# Altium integrated library ST Logic Arithmetic.IntLib: 21 symbols
Pins are listed as number, name and electrical type; pins without a type are passive.

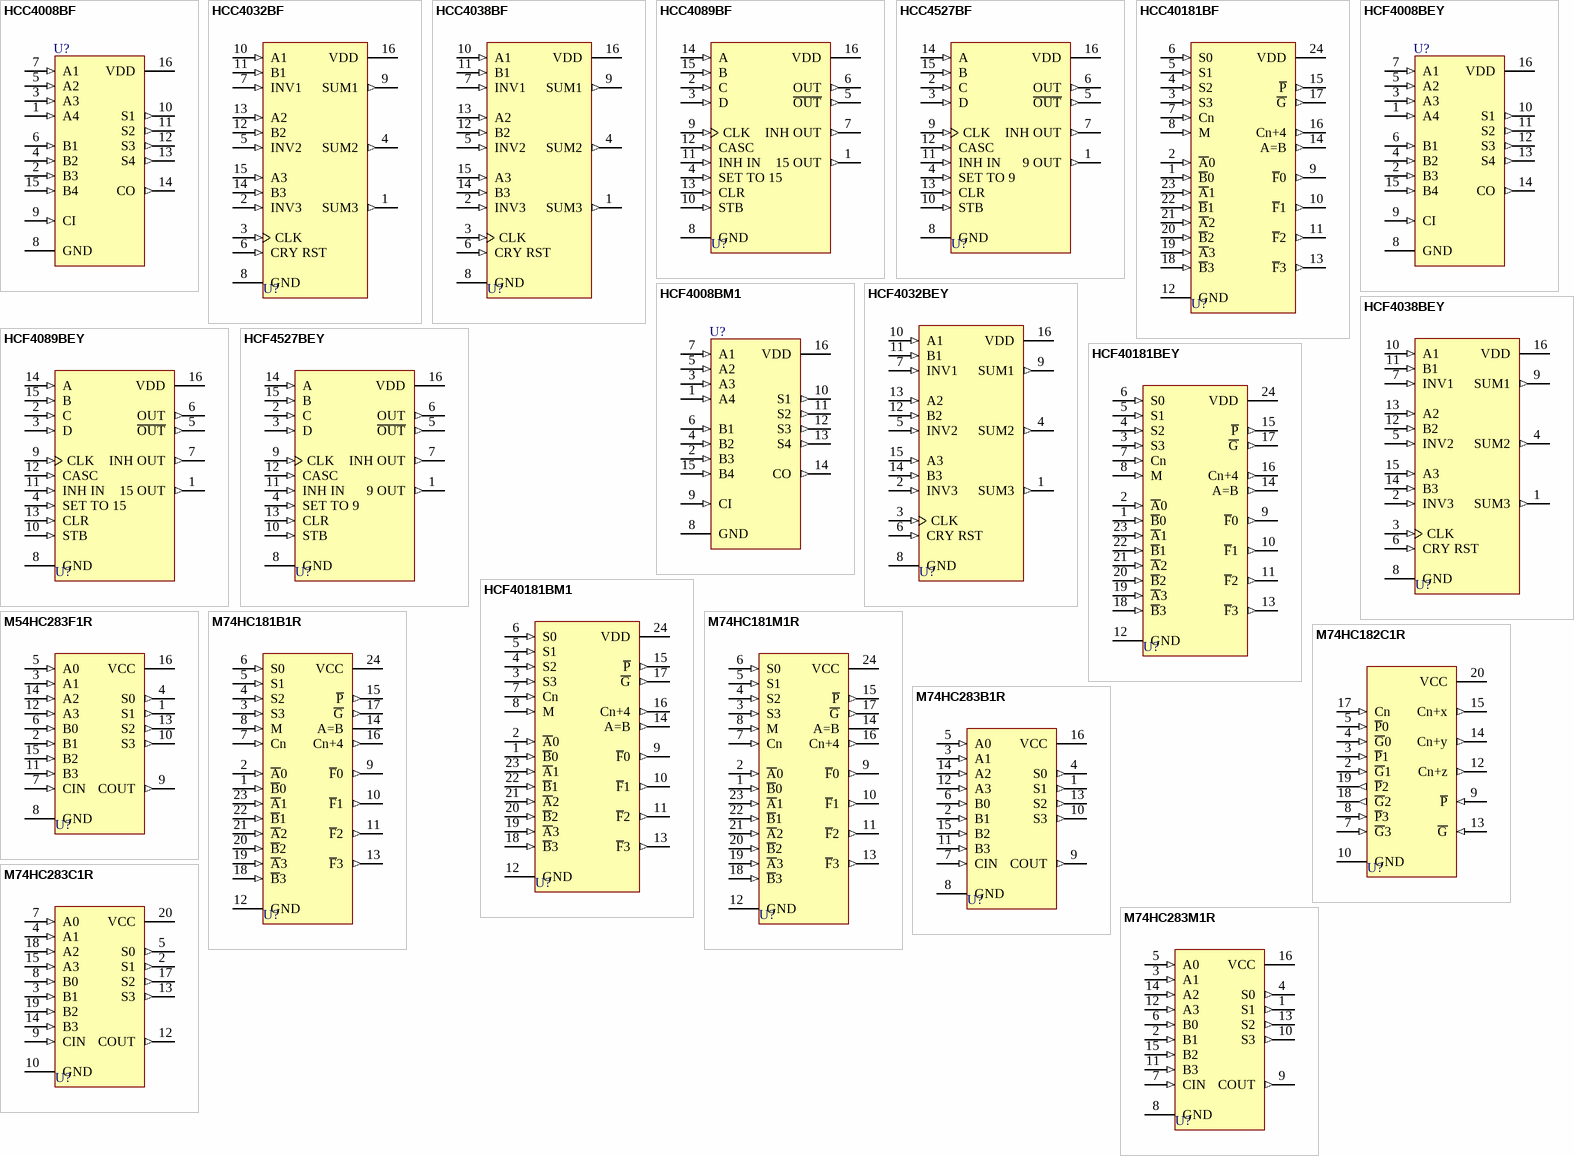
[diagram p0: symbols HCC4008BF to M74HC283M1R]

## HCC4008BF
designator U?
4-Bit Full Adder with Parallel Carry Output; Published: 8-Jun-2000; LatestRevisionDate: 06-Jun-2005; LatestRevisionNote: Stylized 3D Model Added.; DatasheetVersion: Jun-1989; PackageVersion: Apr-1996; PackageReference: DIP16; Publisher: Altium Limited; PackageDescription: DIP; 16 Leads; Row Spacing 7.62 mm; Pitch 2.54 mm; ComponentLink1Description: Manufacturer Link; ComponentLink1URL: http://www.st.com/
footprint DIP16 (DIP; 16 Leads; Row Spacing 7.62 mm; Pitch 2.54 mm)
3D model DIP16 (DIP; 16 Leads; Row Spacing 7.62 mm; Pitch 2.54 mm)
simulation model HCC4008 (SIMCODE)
pins: 1 A4 (in), 2 B3 (in), 3 A3 (in), 4 B2 (in), 5 A2 (in), 6 B1 (in), 7 A1 (in), 8 GND (power), 9 CI (in), 10 S1 (out), 11 S2 (out), 12 S3 (out), 13 S4 (out), 14 CO (out), 15 B4 (in), 16 VDD (power)

## HCC4032BF
designator U?
Triple Serial Adders; Published: 8-Jun-2000; LatestRevisionDate: 06-Jun-2005; LatestRevisionNote: Stylized 3D Model Added.; DatasheetVersion: Jun-1989; PackageVersion: Apr-1996; PackageReference: DIP16; Publisher: Altium Limited; PackageDescription: DIP; 16 Leads; Row Spacing 7.62 mm; Pitch 2.54 mm; ComponentLink1Description: Manufacturer Link; ComponentLink1URL: http://www.st.com/
footprint DIP16 (DIP; 16 Leads; Row Spacing 7.62 mm; Pitch 2.54 mm)
3D model DIP16 (DIP; 16 Leads; Row Spacing 7.62 mm; Pitch 2.54 mm)
pins: 1 SUM3 (out), 2 INV3 (in), 3 CLK (in), 4 SUM2 (out), 5 INV2 (in), 6 CRY RST (in), 7 INV1 (in), 8 GND (power), 9 SUM1 (out), 10 A1 (in), 11 B1 (in), 12 B2 (in), 13 A2 (in), 14 B3 (in), 15 A3 (in), 16 VDD (power)

## HCC4038BF
designator U?
Triple Serial Adders; Published: 8-Jun-2000; LatestRevisionDate: 06-Jun-2005; LatestRevisionNote: Stylized 3D Model Added.; DatasheetVersion: Jun-1989; PackageVersion: Apr-1996; PackageReference: DIP16; Publisher: Altium Limited; PackageDescription: DIP; 16 Leads; Row Spacing 7.62 mm; Pitch 2.54 mm; ComponentLink1Description: Manufacturer Link; ComponentLink1URL: http://www.st.com/
footprint DIP16 (DIP; 16 Leads; Row Spacing 7.62 mm; Pitch 2.54 mm)
3D model DIP16 (DIP; 16 Leads; Row Spacing 7.62 mm; Pitch 2.54 mm)
pins: 1 SUM3 (out), 2 INV3 (in), 3 CLK (in), 4 SUM2 (out), 5 INV2 (in), 6 CRY RST (in), 7 INV1 (in), 8 GND (power), 9 SUM1 (out), 10 A1 (in), 11 B1 (in), 12 B2 (in), 13 A2 (in), 14 B3 (in), 15 A3 (in), 16 VDD (power)

## HCC4089BF
designator U?
Binary Rate Multiplier; Published: 8-Jun-2000; LatestRevisionDate: 06-Jun-2005; LatestRevisionNote: Stylized 3D Model Added.; DatasheetVersion: Jun-1989; PackageVersion: Apr-1996; PackageReference: DIP16; Publisher: Altium Limited; PackageDescription: DIP; 16 Leads; Row Spacing 7.62 mm; Pitch 2.54 mm; ComponentLink1Description: Manufacturer Link; ComponentLink1URL: http://www.st.com/
footprint DIP16 (DIP; 16 Leads; Row Spacing 7.62 mm; Pitch 2.54 mm)
3D model DIP16 (DIP; 16 Leads; Row Spacing 7.62 mm; Pitch 2.54 mm)
pins: 1 15 OUT (out), 2 C (in), 3 D (in), 4 SET TO 15 (in), 5 ~{OUT} (out), 6 OUT (out), 7 INH OUT (out), 8 GND (power), 9 CLK (in), 10 STB (in), 11 INH IN (in), 12 CASC (in), 13 CLR (in), 14 A (in), 15 B (in), 16 VDD (power)

## HCC4527BF
designator U?
BCD Rate Multiplexer; Published: 8-Jun-2000; LatestRevisionDate: 06-Jun-2005; LatestRevisionNote: Stylized 3D Model Added.; DatasheetVersion: Sep-1990; PackageVersion: Apr-1996; PackageReference: DIP16; Publisher: Altium Limited; PackageDescription: DIP; 16 Leads; Row Spacing 7.62 mm; Pitch 2.54 mm; ComponentLink1Description: Manufacturer Link; ComponentLink1URL: http://www.st.com/
footprint DIP16 (DIP; 16 Leads; Row Spacing 7.62 mm; Pitch 2.54 mm)
3D model DIP16 (DIP; 16 Leads; Row Spacing 7.62 mm; Pitch 2.54 mm)
pins: 1 9 OUT (out), 2 C (in), 3 D (in), 4 SET TO 9 (in), 5 ~{OUT} (out), 6 OUT (out), 7 INH OUT (out), 8 GND (power), 9 CLK (in), 10 STB (in), 11 INH IN (in), 12 CASC (in), 13 CLR (in), 14 A (in), 15 B (in), 16 VDD (power)

## HCC40181BF
designator U?
4-Bit Arithmetic Logic Unit; Published: 8-Jun-2000; LatestRevisionDate: 06-Jun-2005; LatestRevisionNote: Stylized 3D Model Added.; DatasheetVersion: Jun-1989; PackageVersion: Sep-1988; PackageReference: CDIP24; Publisher: Altium Limited; PackageDescription: DIP; 24 Leads; Row Spacing 15.24 mm; Pitch 2.54 mm; ComponentLink1Description: Manufacturer Link; ComponentLink1URL: http://www.st.com/; ComponentLink2Description: Datasheet; ComponentLink2URL: http://www.st.com/stonline/products/literature/ds/2032/hcf4018.pdf
footprint CDIP24 (DIP; 24 Leads; Row Spacing 15.24 mm; Pitch 2.54 mm)
3D model PDIP24 (DIP; 24 Leads; Row Spacing 15.24 mm; Pitch 2.54 mm)
pins: 1 ~{B}0 (in), 2 ~{A}0 (in), 3 S3 (in), 4 S2 (in), 5 S1 (in), 6 S0 (in), 7 Cn (in), 8 M (in), 9 ~{F}0 (out), 10 ~{F}1 (out), 11 ~{F}2 (out), 12 GND (power), 13 ~{F}3 (out), 14 A=B (out), 15 ~{P} (out), 16 Cn+4 (out), 17 ~{G} (out), 18 ~{B}3 (in), 19 ~{A}3 (in), 20 ~{B}2 (in), 21 ~{A}2 (in), 22 ~{B}1 (in), 23 ~{A}1 (in), 24 VDD (power)

## HCF4008BEY
designator U?
4-Bit Full Adder with Parallel Carry Output; Published: 8-Jun-2000; LatestRevisionDate: 06-Jun-2005; LatestRevisionNote: Stylized 3D Model Added.; DatasheetVersion: Jun-1989; PackageVersion: Apr-1996; PackageReference: DIP16; Publisher: Altium Limited; PackageDescription: DIP; 16 Leads; Row Spacing 7.62 mm; Pitch 2.54 mm; ComponentLink1Description: Manufacturer Link; ComponentLink1URL: http://www.st.com/
footprint DIP16 (DIP; 16 Leads; Row Spacing 7.62 mm; Pitch 2.54 mm)
3D model DIP16 (DIP; 16 Leads; Row Spacing 7.62 mm; Pitch 2.54 mm)
simulation model HCF4008 (SIMCODE)
pins: 1 A4 (in), 2 B3 (in), 3 A3 (in), 4 B2 (in), 5 A2 (in), 6 B1 (in), 7 A1 (in), 8 GND (power), 9 CI (in), 10 S1 (out), 11 S2 (out), 12 S3 (out), 13 S4 (out), 14 CO (out), 15 B4 (in), 16 VDD (power)

## HCF4008BM1
designator U?
4-Bit Full Adder with Parallel Carry Output; Published: 8-Jun-2000; LatestRevisionDate: 13-Apr-2006; LatestRevisionNote: IPC-7351 Footprint Added.; DatasheetVersion: Jun-1989; PackageVersion: May-1998; PackageReference: SO16; Publisher: Altium Limited; PackageDescription: 16-Pin Small Outline Integrated Circuit 1.27 mm Pitch; Code_IPC: SOIC127P600-16; ComponentLink1Description: Manufacturer Link; ComponentLink1URL: http://www.st.com/
footprint SO16_N (SOIC, 16-Leads, Body 9.9x3.9mm, Pitch 1.27mm, IPC Medium Density)
footprint SO16_L (SOIC, 16-Leads, Body 9.9x3.9mm, Pitch 1.27mm, IPC High Density)
footprint SO16_M (SOIC, 16-Leads, Body 9.9x3.9mm, Pitch 1.27mm, IPC Low Density)
3D model SO16 (16-Pin Small Outline Integrated Circuit 1.27 mm Pitch)
simulation model HCF4008 (SIMCODE)
pins: 1 A4 (in), 2 B3 (in), 3 A3 (in), 4 B2 (in), 5 A2 (in), 6 B1 (in), 7 A1 (in), 8 GND (power), 9 CI (in), 10 S1 (out), 11 S2 (out), 12 S3 (out), 13 S4 (out), 14 CO (out), 15 B4 (in), 16 VDD (power)

## HCF4032BEY
designator U?
Triple Serial Adders; Published: 8-Jun-2000; LatestRevisionDate: 06-Jun-2005; LatestRevisionNote: Stylized 3D Model Added.; DatasheetVersion: Jun-1989; PackageVersion: Apr-1996; PackageReference: DIP16; Publisher: Altium Limited; PackageDescription: DIP; 16 Leads; Row Spacing 7.62 mm; Pitch 2.54 mm; ComponentLink1Description: Manufacturer Link; ComponentLink1URL: http://www.st.com/
footprint DIP16 (DIP; 16 Leads; Row Spacing 7.62 mm; Pitch 2.54 mm)
3D model DIP16 (DIP; 16 Leads; Row Spacing 7.62 mm; Pitch 2.54 mm)
pins: 1 SUM3 (out), 2 INV3 (in), 3 CLK (in), 4 SUM2 (out), 5 INV2 (in), 6 CRY RST (in), 7 INV1 (in), 8 GND (power), 9 SUM1 (out), 10 A1 (in), 11 B1 (in), 12 B2 (in), 13 A2 (in), 14 B3 (in), 15 A3 (in), 16 VDD (power)

## HCF4038BEY
designator U?
Triple Serial Adders; Published: 8-Jun-2000; LatestRevisionDate: 06-Jun-2005; LatestRevisionNote: Stylized 3D Model Added.; DatasheetVersion: Jun-1989; PackageVersion: Apr-1996; PackageReference: DIP16; Publisher: Altium Limited; PackageDescription: DIP; 16 Leads; Row Spacing 7.62 mm; Pitch 2.54 mm; ComponentLink1Description: Manufacturer Link; ComponentLink1URL: http://www.st.com/
footprint DIP16 (DIP; 16 Leads; Row Spacing 7.62 mm; Pitch 2.54 mm)
3D model DIP16 (DIP; 16 Leads; Row Spacing 7.62 mm; Pitch 2.54 mm)
pins: 1 SUM3 (out), 2 INV3 (in), 3 CLK (in), 4 SUM2 (out), 5 INV2 (in), 6 CRY RST (in), 7 INV1 (in), 8 GND (power), 9 SUM1 (out), 10 A1 (in), 11 B1 (in), 12 B2 (in), 13 A2 (in), 14 B3 (in), 15 A3 (in), 16 VDD (power)

## HCF4089BEY
designator U?
Binary Rate Multiplier; Published: 8-Jun-2000; LatestRevisionDate: 06-Jun-2005; LatestRevisionNote: Stylized 3D Model Added.; DatasheetVersion: Jun-1989; PackageVersion: Apr-1996; PackageReference: DIP16; Publisher: Altium Limited; PackageDescription: DIP; 16 Leads; Row Spacing 7.62 mm; Pitch 2.54 mm; ComponentLink1Description: Manufacturer Link; ComponentLink1URL: http://www.st.com/
footprint DIP16 (DIP; 16 Leads; Row Spacing 7.62 mm; Pitch 2.54 mm)
3D model DIP16 (DIP; 16 Leads; Row Spacing 7.62 mm; Pitch 2.54 mm)
pins: 1 15 OUT (out), 2 C (in), 3 D (in), 4 SET TO 15 (in), 5 ~{OUT} (out), 6 OUT (out), 7 INH OUT (out), 8 GND (power), 9 CLK (in), 10 STB (in), 11 INH IN (in), 12 CASC (in), 13 CLR (in), 14 A (in), 15 B (in), 16 VDD (power)

## HCF4527BEY
designator U?
BCD Rate Multiplexer; Published: 8-Jun-2000; LatestRevisionDate: 06-Jun-2005; LatestRevisionNote: Stylized 3D Model Added.; DatasheetVersion: Sep-1990; PackageVersion: Apr-1996; PackageReference: DIP16; Publisher: Altium Limited; PackageDescription: DIP; 16 Leads; Row Spacing 7.62 mm; Pitch 2.54 mm; ComponentLink1Description: Manufacturer Link; ComponentLink1URL: http://www.st.com/
footprint DIP16 (DIP; 16 Leads; Row Spacing 7.62 mm; Pitch 2.54 mm)
3D model DIP16 (DIP; 16 Leads; Row Spacing 7.62 mm; Pitch 2.54 mm)
pins: 1 9 OUT (out), 2 C (in), 3 D (in), 4 SET TO 9 (in), 5 ~{OUT} (out), 6 OUT (out), 7 INH OUT (out), 8 GND (power), 9 CLK (in), 10 STB (in), 11 INH IN (in), 12 CASC (in), 13 CLR (in), 14 A (in), 15 B (in), 16 VDD (power)

## HCF40181BEY
designator U?
4-Bit Arithmetic Logic Unit; Published: 8-Jun-2000; LatestRevisionDate: 06-Jun-2005; LatestRevisionNote: Stylized 3D Model Added.; DatasheetVersion: Jun-1989; PackageVersion: Jan-1995; PackageReference: PDIP24; Publisher: Altium Limited; PackageDescription: DIP; 24 Leads; Row Spacing 15.24 mm; Pitch 2.54 mm; ComponentLink1Description: Manufacturer Link; ComponentLink1URL: http://www.st.com/; ComponentLink2Description: Datasheet; ComponentLink2URL: http://www.st.com/stonline/products/literature/ds/2032/hcf4018.pdf
footprint PDIP24 (DIP; 24 Leads; Row Spacing 15.24 mm; Pitch 2.54 mm)
3D model PDIP24 (DIP; 24 Leads; Row Spacing 15.24 mm; Pitch 2.54 mm)
pins: 1 ~{B}0 (in), 2 ~{A}0 (in), 3 S3 (in), 4 S2 (in), 5 S1 (in), 6 S0 (in), 7 Cn (in), 8 M (in), 9 ~{F}0 (out), 10 ~{F}1 (out), 11 ~{F}2 (out), 12 GND (power), 13 ~{F}3 (out), 14 A=B (out), 15 ~{P} (out), 16 Cn+4 (out), 17 ~{G} (out), 18 ~{B}3 (in), 19 ~{A}3 (in), 20 ~{B}2 (in), 21 ~{A}2 (in), 22 ~{B}1 (in), 23 ~{A}1 (in), 24 VDD (power)

## HCF40181BM1
designator U?
4-Bit Arithmetic Logic Unit; Published: 8-Jun-2000; LatestRevisionDate: 13-Apr-2006; LatestRevisionNote: IPC-7351 Footprint Added.; DatasheetVersion: Jun-1989; PackageVersion: Oct-2001; PackageReference: SO24; Publisher: Altium Limited; PackageDescription: 24-Pin Plastic Small Outline Integrated Circuit 1.27 mm Pitch; ComponentLink1Description: Manufacturer Link; ComponentLink1URL: http://www.st.com/; ComponentLink2Description: Datasheet; ComponentLink2URL: http://www.st.com/stonline/products/literature/ds/2032/hcf4018.pdf
footprint SO24_N (SOIC, 24-Leads, Body 15.4x7.5mm, Pitch 1.27mm, IPC Medium Density)
footprint SO24_L (SOIC, 24-Leads, Body 15.4x7.5mm, Pitch 1.27mm, IPC High Density)
footprint SO24_M (SOIC, 24-Leads, Body 15.4x7.5mm, Pitch 1.27mm, IPC Low Density)
3D model SO24 (24-Pin Plastic Small Outline Integrated Circuit 1.27 mm Pitch)
pins: 1 ~{B}0 (in), 2 ~{A}0 (in), 3 S3 (in), 4 S2 (in), 5 S1 (in), 6 S0 (in), 7 Cn (in), 8 M (in), 9 ~{F}0 (out), 10 ~{F}1 (out), 11 ~{F}2 (out), 12 GND (power), 13 ~{F}3 (out), 14 A=B (out), 15 ~{P} (out), 16 Cn+4 (out), 17 ~{G} (out), 18 ~{B}3 (in), 19 ~{A}3 (in), 20 ~{B}2 (in), 21 ~{A}2 (in), 22 ~{B}1 (in), 23 ~{A}1 (in), 24 VDD (power)

## M54HC283F1R
designator U?
4-Bit Binary Full Adder; Published: 8-Jun-2000; LatestRevisionDate: 06-Jun-2005; LatestRevisionNote: Stylized 3D Model Added.; DatasheetVersion: Oct-1992; PackageVersion: Apr-1996; PackageReference: DIP16; Publisher: Altium Limited; PackageDescription: DIP; 16 Leads; Row Spacing 7.62 mm; Pitch 2.54 mm; ComponentLink1Description: Manufacturer Link; ComponentLink1URL: http://www.st.com/
footprint DIP16 (DIP; 16 Leads; Row Spacing 7.62 mm; Pitch 2.54 mm)
3D model DIP16 (DIP; 16 Leads; Row Spacing 7.62 mm; Pitch 2.54 mm)
signal-integrity model M54HC283F1R
pins: 1 S1 (out), 2 B1 (in), 3 A1 (in), 4 S0 (out), 5 A0 (in), 6 B0 (in), 7 CIN (in), 8 GND (power), 9 COUT (out), 10 S3 (out), 11 B3 (in), 12 A3 (in), 13 S2 (out), 14 A2 (in), 15 B2 (in), 16 VCC (power)

## M74HC181B1R
designator U?
Arithmetic Logic Unit/Fuction Generator; Published: 8-Jun-2000; LatestRevisionDate: 06-Jun-2005; LatestRevisionNote: Stylized 3D Model Added.; DatasheetVersion: Oct-1993; PackageVersion: Jan-1995; PackageReference: PDIP24; Publisher: Altium Limited; PackageDescription: DIP; 24 Leads; Row Spacing 15.24 mm; Pitch 2.54 mm; ComponentLink1Description: Manufacturer Link; ComponentLink1URL: http://www.st.com/
footprint PDIP24 (DIP; 24 Leads; Row Spacing 15.24 mm; Pitch 2.54 mm)
3D model PDIP24 (DIP; 24 Leads; Row Spacing 15.24 mm; Pitch 2.54 mm)
signal-integrity model M74HC181B1R
pins: 1 ~{B}0 (in), 2 ~{A}0 (in), 3 S3 (in), 4 S2 (in), 5 S1 (in), 6 S0 (in), 7 Cn (in), 8 M (in), 9 ~{F}0 (out), 10 ~{F}1 (out), 11 ~{F}2 (out), 12 GND (power), 13 ~{F}3 (out), 14 A=B (oc), 15 ~{P} (out), 16 Cn+4 (out), 17 ~{G} (out), 18 ~{B}3 (in), 19 ~{A}3 (in), 20 ~{B}2 (in), 21 ~{A}2 (in), 22 ~{B}1 (in), 23 ~{A}1 (in), 24 VCC (power)

## M74HC181M1R
designator U?
Arithmetic Logic Unit/Fuction Generator; Published: 8-Jun-2000; LatestRevisionDate: 13-Apr-2006; LatestRevisionNote: IPC-7351 Footprint Added.; DatasheetVersion: Oct-1993; PackageVersion: Oct-2001; PackageReference: SO24; Publisher: Altium Limited; PackageDescription: 24-Pin Plastic Small Outline Integrated Circuit 1.27 mm Pitch; ComponentLink1Description: Manufacturer Link; ComponentLink1URL: http://www.st.com/
footprint SO24_N (SOIC, 24-Leads, Body 15.4x7.5mm, Pitch 1.27mm, IPC Medium Density)
footprint SO24_L (SOIC, 24-Leads, Body 15.4x7.5mm, Pitch 1.27mm, IPC High Density)
footprint SO24_M (SOIC, 24-Leads, Body 15.4x7.5mm, Pitch 1.27mm, IPC Low Density)
3D model SO24 (24-Pin Plastic Small Outline Integrated Circuit 1.27 mm Pitch)
signal-integrity model M74HC181M1R
pins: 1 ~{B}0 (in), 2 ~{A}0 (in), 3 S3 (in), 4 S2 (in), 5 S1 (in), 6 S0 (in), 7 Cn (in), 8 M (in), 9 ~{F}0 (out), 10 ~{F}1 (out), 11 ~{F}2 (out), 12 GND (power), 13 ~{F}3 (out), 14 A=B (oc), 15 ~{P} (out), 16 Cn+4 (out), 17 ~{G} (out), 18 ~{B}3 (in), 19 ~{A}3 (in), 20 ~{B}2 (in), 21 ~{A}2 (in), 22 ~{B}1 (in), 23 ~{A}1 (in), 24 VCC (power)

## M74HC182C1R
designator U?
Function Look Ahead Carry Generator; Note: Pins 1, 6, 11 and 16 are not connected and not drawn.; Published: 8-Jun-2000; LatestRevisionDate: 13-Apr-2006; LatestRevisionNote: IPC-7351 Footprint Added.; DatasheetVersion: Mar-1993; PackageVersion: Mar-1992; PackageReference: PLCC20; Publisher: Altium Limited; PackageDescription: 20-Pin Leaded Chip Carrier 1.27 mm Pitch; ComponentLink1Description: Manufacturer Link; ComponentLink1URL: http://www.st.com/
footprint PLCC20_N (Leaded Chip Carrier, 20-Leads, Body 9x9mm, Pitch 1.27mm, IPC Medium Density)
footprint PLCC20_L (Leaded Chip Carrier, 20-Leads, Body 9x9mm, Pitch 1.27mm, IPC High Density)
footprint PLCC20_M (Leaded Chip Carrier, 20-Leads, Body 9x9mm, Pitch 1.27mm, IPC Low Density)
3D model M74HC182-PLCC20 (20-Pin Leaded Chip Carrier 1.27 mm Pitch)
signal-integrity model M74HC182C1R
pins: 2 ~{G}1 (in), 3 ~{P}1 (in), 4 ~{G}0 (in), 5 ~{P}0 (in), 7 ~{G}3 (in), 8 ~{P}3 (in), 9 ~{P} (in), 10 GND (power), 12 Cn+z (out), 13 ~{G} (in), 14 Cn+y (out), 15 Cn+x (out), 17 Cn (in), 18 ~{G}2 (out), 19 ~{P}2 (out), 20 VCC (power)

## M74HC283B1R
designator U?
4-Bit Binary Full Adder; Published: 8-Jun-2000; LatestRevisionDate: 06-Jun-2005; LatestRevisionNote: Stylized 3D Model Added.; DatasheetVersion: Oct-1992; PackageVersion: Apr-1996; PackageReference: DIP16; Publisher: Altium Limited; PackageDescription: DIP; 16 Leads; Row Spacing 7.62 mm; Pitch 2.54 mm; ComponentLink1Description: Manufacturer Link; ComponentLink1URL: http://www.st.com/
footprint DIP16 (DIP; 16 Leads; Row Spacing 7.62 mm; Pitch 2.54 mm)
3D model DIP16 (DIP; 16 Leads; Row Spacing 7.62 mm; Pitch 2.54 mm)
signal-integrity model M74HC283B1R
pins: 1 S1 (out), 2 B1 (in), 3 A1 (in), 4 S0 (out), 5 A0 (in), 6 B0 (in), 7 CIN (in), 8 GND (power), 9 COUT (out), 10 S3 (out), 11 B3 (in), 12 A3 (in), 13 S2 (out), 14 A2 (in), 15 B2 (in), 16 VCC (power)

## M74HC283C1R
designator U?
4-Bit Binary Full Adder; Note: Pins 1,6,11,18 are No Connection and not drawn; Published: 8-Jun-2000; LatestRevisionDate: 13-Apr-2006; LatestRevisionNote: IPC-7351 Footprint Added.; DatasheetVersion: Oct-1992; PackageVersion: Mar-1992; PackageReference: PLCC20; Publisher: Altium Limited; PackageDescription: 20-Pin Leaded Chip Carrier 1.27 mm Pitch; ComponentLink1Description: Manufacturer Link; ComponentLink1URL: http://www.st.com/
footprint PLCC20_N (Leaded Chip Carrier, 20-Leads, Body 9x9mm, Pitch 1.27mm, IPC Medium Density)
footprint PLCC20_L (Leaded Chip Carrier, 20-Leads, Body 9x9mm, Pitch 1.27mm, IPC High Density)
footprint PLCC20_M (Leaded Chip Carrier, 20-Leads, Body 9x9mm, Pitch 1.27mm, IPC Low Density)
3D model M74HC283-PLCC20 (20-Pin Leaded Chip Carrier 1.27 mm Pitch)
signal-integrity model M74HC283C1R
pins: 2 S1 (out), 3 B1 (in), 4 A1 (in), 5 S0 (out), 7 A0 (in), 8 B0 (in), 9 CIN (in), 10 GND (power), 12 COUT (out), 13 S3 (out), 14 B3 (in), 15 A3 (in), 17 S2 (out), 18 A2 (in), 19 B2 (in), 20 VCC (power)

## M74HC283M1R
designator U?
4-Bit Binary Full Adder; Published: 8-Jun-2000; LatestRevisionDate: 13-Apr-2006; LatestRevisionNote: IPC-7351 Footprint Added.; DatasheetVersion: Oct-1992; PackageVersion: May-1998; PackageReference: SO16; Publisher: Altium Limited; PackageDescription: 16-Pin Small Outline Integrated Circuit 1.27 mm Pitch; Code_IPC: SOIC127P600-16; ComponentLink1Description: Manufacturer Link; ComponentLink1URL: http://www.st.com/
footprint SO16_N (SOIC, 16-Leads, Body 9.9x3.9mm, Pitch 1.27mm, IPC Medium Density)
footprint SO16_L (SOIC, 16-Leads, Body 9.9x3.9mm, Pitch 1.27mm, IPC High Density)
footprint SO16_M (SOIC, 16-Leads, Body 9.9x3.9mm, Pitch 1.27mm, IPC Low Density)
3D model SO16 (16-Pin Small Outline Integrated Circuit 1.27 mm Pitch)
signal-integrity model M74HC283M1R
pins: 1 S1 (out), 2 B1 (in), 3 A1 (in), 4 S0 (out), 5 A0 (in), 6 B0 (in), 7 CIN (in), 8 GND (power), 9 COUT (out), 10 S3 (out), 11 B3 (in), 12 A3 (in), 13 S2 (out), 14 A2 (in), 15 B2 (in), 16 VCC (power)